# Altium footprint library Smd Micro Push button Switch 2P 3x6x2.5mm.PcbLib: 1 footprints
Each footprint in its own frame and in the unit in brackets; x right, y up, seen from the top. Pads: shape width x height; smd on the part's side, far side on the other; paste and mask are expansions set on the pad; w line width, h text height; cw(c..) or ccw(c..) is an arc to the next point about the centre after c.
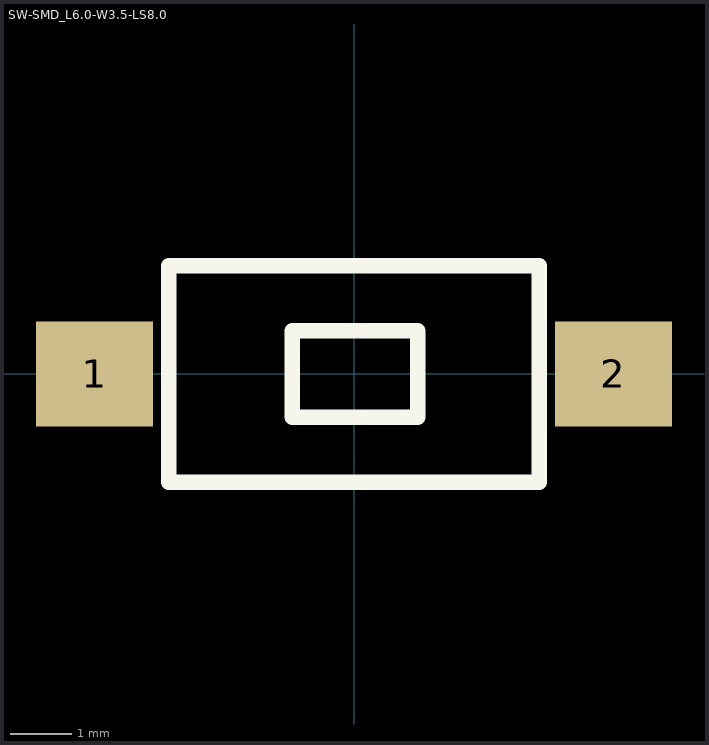
[diagram p0: the footprint, top view; thin cyan lines are the x and y axes]

## SW-SMD_L6.0-W3.5-LS8.0 [mm]
pads (2):
  rect 1.9x1.7 smd paste+0 mask+0.102: 1(-4.2,0) 2(4.2,0)
Top Overlay:
  lines w0.254: -3,-1.75 3,-1.75 3,1.75 -3,1.75 -3,-1.75 ; -1.001,-0.701 -1.001,0.701 1.031,0.701 1.031,-0.701 -1.001,-0.701